# Altium schematic symbol library Capacitor_0603.SchLib: 54 symbols
Pins are listed as number, name and electrical type; pins without a type are passive.

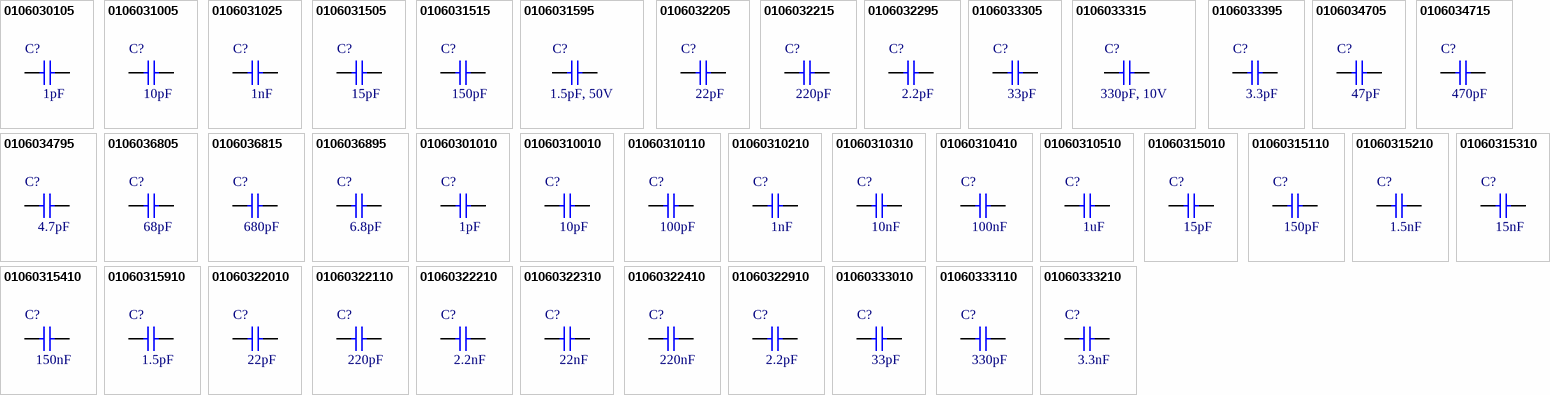
[diagram p0: symbols 0106030105 to 01060333210]

## 0106030105
designator C?, comment 1pF
CAP, size 0603, 1pF; Supply 1 SN: 885012006045; Supply 1 name: Wurth Elektronik; Capacitance Tolerance: +/-5%; ComponentLink1Description: Manufacturer; ComponentLink1URL: http://www.we-online.de; ComponentLink2Description: Datasheet; ComponentLink2URL: https://www.we-online.com/catalog/datasheet/885012006045.pdf; Operating Temperature: -55 to +125degC; Packaging: Tape and Reel; Supply 1 URL: https://www.we-online.com/en/components/products/WCAP-CSGP-50VDC?sq=885012006045#885012006045; Supply 2 SN: *; Supply 2 name: *; Supply 2 URL: *; Dissipation Factor: *; Height: *; Mounting Technology: SMT; Size: 0603; Capacitance: 1pF; Technical Reference: *
footprint CAP_0603
pins: 1, 2

## 0106031005
designator C?, comment 10pF
CAP, size 0603,10pF; Supply 1 SN: 885012006051; Supply 1 name: Wurth Elektronik; Capacitance Tolerance: +/-5%; ComponentLink1Description: Manufacturer; ComponentLink1URL: http://www.we-online.de; ComponentLink2Description: Datasheet; ComponentLink2URL: https://www.we-online.com/catalog/datasheet/885012006051.pdf; Operating Temperature: -55 to +125degC; Packaging: Tape and Reel; Supply 1 URL: https://www.we-online.com/en/components/products/WCAP-CSGP-50VDC?sq=885012006051#885012006051; Supply 2 SN: *; Supply 2 name: *; Supply 2 URL: *; Dissipation Factor: *; Height: *; Mounting Technology: SMT; Size: 0603; Capacitance: 10pF; Technical Reference: *
footprint CAP_0603
pins: 1, 2

## 0106031025
designator C?, comment 1nF
CAP, size 0603, 1nF; Supply 1 SN: 885012006063; Supply 1 name: Wurth Elektronik; Capacitance Tolerance: +/-5%; ComponentLink1Description: Manufacturer; ComponentLink1URL: http://www.we-online.de; ComponentLink2Description: Datasheet; ComponentLink2URL: https://www.we-online.com/components/products/datasheet/885012006063.pdf; Operating Temperature: -55 to +125degC; Packaging: Tape and Reel; Supply 1 URL: https://www.we-online.com/en/components/products/WCAP-CSGP-50VDC?sq=885012007063#885012007063; Supply 2 SN: *; Supply 2 name: *; Supply 2 URL: *; Dissipation Factor: *; Height: *; Mounting Technology: SMT; Size: 0603; Capacitance: 1nF; Technical Reference: *
footprint CAP_0603
pins: 1, 2

## 0106031505
designator C?, comment 15pF
CAP, size 0603, 15pF; Supply 1 SN: 885012006052; Supply 1 name: Wurth Elektronik; Capacitance Tolerance: +/-5%; ComponentLink1Description: Manufacturer; ComponentLink1URL: http://www.we-online.de; ComponentLink2Description: Datasheet; ComponentLink2URL: https://www.we-online.com/catalog/datasheet/885012006052.pdf; Operating Temperature: -55 to +125degC; Packaging: Tape and Reel; Supply 1 URL: https://www.we-online.com/en/components/products/WCAP-CSGP-50VDC?sq=885012007052#885012007052; Supply 2 SN: *; Supply 2 name: *; Supply 2 URL: *; Height: 0.6mm; Mounting Technology: SMT; Size: 0603; Capacitance: 15pF; Technical Reference: *; *: *
footprint CAP_0603
pins: 1, 2

## 0106031515
designator C?, comment 150pF
CAP, size 0603, 150pF; Supply 1 SN: 885012006058; Supply 1 name: Wurth Elektronik; Capacitance Tolerance: +/-5%; ComponentLink1Description: Manufacturer; ComponentLink1URL: http://www.we-online.de; ComponentLink2Description: Datasheet; ComponentLink2URL: https://www.we-online.com/catalog/datasheet/885012006058.pdf; Operating Temperature: -55 to +125degC; Packaging: Tape and Reel; Supply 1 URL: https://www.we-online.com/en/components/products/WCAP-CSGP-50VDC?sq=885012006058#885012006058; Supply 2 SN: *; Supply 2 name: *; Supply 2 URL: *; Dissipation Factor: *; Height: *; Mounting Technology: SMT; Size: 0805; Capacitance: 150pF; Technical Reference: *
footprint CAP_0603
pins: 1, 2

## 0106031595
designator C?, comment 1.5pF, 50V
CAP, size 0603, 1.5pF; Supply 1 SN: 885012006046; Supply 1 name: Wurth Elektronik; Capacitance Tolerance: +/-0.5pF; ComponentLink1Description: Manufacturer; ComponentLink1URL: http://www.we-online.de; ComponentLink2Description: Datasheet; ComponentLink2URL: https://www.we-online.com/catalog/datasheet/885012006046.pdf; Operating Temperature: -55 to +125degC; Packaging: Tape and Reel; Supply 1 URL: https://www.we-online.com/en/components/products/WCAP-CSGP-50VDC?sq=885012006046#885012006046; Supply 2 SN: *; Supply 2 name: *; Supply 2 URL: *; Dissipation Factor: *; Height: *; Mounting Technology: SMT; Size: 0603; Capacitance: 1.5pF; Technical Reference: *
footprint CAP_0603
pins: 1, 2

## 0106032205
designator C?, comment 22pF
CAP, size 0603, 22pF; Supply 1 SN: 885012006053; Supply 1 name: Wurth Elektronik; Capacitance Tolerance: +/-5%; ComponentLink1Description: Manufacturer; ComponentLink1URL: http://www.we-online.de; ComponentLink2Description: Datasheet; ComponentLink2URL: https://www.we-online.com/catalog/datasheet/885012006053.pdf; Operating Temperature: -55 to +125degC; Packaging: Tape and Reel; Supply 1 URL: https://www.we-online.com/en/components/products/WCAP-CSGP-50VDC?sq=885012006053#885012006053; Supply 2 SN: *; Supply 2 name: *; Supply 2 URL: *; *: *; Height: *; Mounting Technology: SMT; Size: 0805; Capacitance: 22pF; Technical Reference: *
footprint CAP_0603
pins: 1, 2

## 0106032215
designator C?, comment 220pF
CAP, size 0603, 220pF; Supply 1 SN: 885012006059; Supply 1 name: Wurth Elektronik; Capacitance Tolerance: +/-5%; ComponentLink1Description: Manufacturer; ComponentLink1URL: http://www.we-online.de; ComponentLink2Description: Datasheet; ComponentLink2URL: https://www.we-online.com/catalog/datasheet/885012006059.pdf; Operating Temperature: -55 to +125degC; Packaging: Tape and Reel; Supply 1 URL: https://www.we-online.com/en/components/products/WCAP-CSGP-50VDC?sq=885012006059#885012006059; Supply 2 SN: *; Supply 2 name: *; Supply 2 URL: *; Dissipation Factor: *; Height: *; Mounting Technology: SMT; Size: 0805; Technical Reference: *; Capacitance: 220pF
footprint CAP_0603
pins: 1, 2

## 0106032295
designator C?, comment 2.2pF
CAP, size 0603, 2.2pF; Supply 1 SN: 885012006047; Supply 1 name: Wurth Elektronik; Capacitance Tolerance: +/-0.5pF; ComponentLink1Description: Manufacturer; ComponentLink1URL: http://www.we-online.de; ComponentLink2Description: Datasheet; ComponentLink2URL: https://www.we-online.com/catalog/datasheet/885012006047.pdf; Operating Temperature: -55 to +125degC; Packaging: Tape and Reel; Supply 1 URL: https://www.we-online.com/en/components/products/WCAP-CSGP-50VDC?sq=885012006047#885012006047; Supply 2 SN: *; Supply 2 name: *; Supply 2 URL: *; Dissipation Factor: *; Height: *; Mounting Technology: SMT; Size: 0805; Capacitance: 2.2pF; Technical Reference: *
footprint CAP_0603
pins: 1, 2

## 0106033305
designator C?, comment 33pF
CAP, size 0603, 33pF; Supply 1 SN: 885012006054; Supply 1 name: Wurth Elektronik; Capacitance Tolerance: +/-5%; ComponentLink1Description: Manufacturer; ComponentLink1URL: http://www.we-online.de; ComponentLink2Description: Datasheet; ComponentLink2URL: https://www.we-online.com/catalog/datasheet/885012006054.pdf; Operating Temperature: -55 to +125degC; Packaging: Tape and Reel; Supply 1 URL: https://www.we-online.com/en/components/products/WCAP-CSGP-50VDC?sq=885012006054#885012006054; Supply 2 SN: *; Supply 2 name: *; Supply 2 URL: *; *: *; Height: *; Mounting Technology: SMT; Size: 0805; Capacitance: 33pF; Technical Reference: *
footprint CAP_0603
pins: 1, 2

## 0106033315
designator C?, comment 330pF, 10V
CAP, size 0603, 330pF; Supply 1 SN: 885012006060; Supply 1 name: Wurth Elektronik; Capacitance Tolerance: +/-5%; ComponentLink1Description: Manufacturer; ComponentLink1URL: http://www.we-online.de; ComponentLink2Description: Datasheet; ComponentLink2URL: https://www.we-online.com/catalog/datasheet/885012006060.pdf; Operating Temperature: -55 to +125degC; Packaging: Tape and Reel; Supply 1 URL: https://www.we-online.com/en/components/products/WCAP-CSGP-50VDC?sq=885012006060#885012006060; Supply 2 SN: *; Supply 2 name: *; Supply 2 URL: *; Dissipation Factor: *; Height: *; Mounting Technology: SMT; Size: 0603; Capacitance: 330pF; Technical Reference: *
footprint CAP_0603
pins: 1, 2

## 0106033395
designator C?, comment 3.3pF
CAP, size 0603, 3.3pF; Supply 1 SN: 885012006048; Supply 1 name: Wurth Elektronik; Capacitance Tolerance: +/-0.5pF; ComponentLink1Description: Manufacturer; ComponentLink1URL: http://www.we-online.de; ComponentLink2Description: Datasheet; ComponentLink2URL: https://www.we-online.com/catalog/datasheet/885012006048.pdf; Operating Temperature: -55 to +125degC; Packaging: Tape and Reel; Supply 1 URL: https://www.we-online.com/en/components/products/WCAP-CSGP-50VDC?sq=885012006048#885012006048; Supply 2 SN: *; Supply 2 name: *; Supply 2 URL: *; Dissipation Factor: *; Height: *; Mounting Technology: SMT; Size: 0805; Capacitance: 3.3pF; Technical Reference: *
footprint CAP_0603
pins: 1, 2

## 0106034705
designator C?, comment 47pF
CAP, size 0603, 47pF; Supply 1 SN: 885012006055; Supply 1 name: Wurth Elektronik; Capacitance Tolerance: +/-5%; ComponentLink1Description: Manufacturer; ComponentLink1URL: http://www.we-online.de; ComponentLink2Description: Datasheet; ComponentLink2URL: https://www.we-online.com/catalog/datasheet/885012006055.pdf; Operating Temperature: -55 to +125degC; Packaging: Tape and Reel; Supply 1 URL: https://www.we-online.com/en/components/products/WCAP-CSGP-50VDC?sq=885012006055#885012006055; Supply 2 SN: *; Supply 2 name: *; Supply 2 URL: *; Dissipation Factor: *; Height: *; Mounting Technology: SMT; Size: 0603; Capacitance: 47pF; Technical Reference: *
footprint CAP_0603
pins: 1, 2

## 0106034715
designator C?, comment 470pF
CAP, size 0603, 470pF; Supply 1 SN: 885012006061; Supply 1 name: Wurth Elektronik; Capacitance Tolerance: +/-5%; ComponentLink1Description: Manufacturer; ComponentLink1URL: http://www.we-online.de; ComponentLink2Description: Datasheet; ComponentLink2URL: https://www.we-online.com/catalog/datasheet/885012006061.pdf; Operating Temperature: -55 to +125degC; Packaging: Tape and Reel; Supply 1 URL: https://www.we-online.com/en/components/products/WCAP-CSGP-50VDC?sq=885012006061#885012006061; Supply 2 SN: *; Supply 2 name: *; Supply 2 URL: *; Dissipation Factor: *; Height: *; Mounting Technology: SMT; Size: 0603; Capacitance: 470pF; Technical Reference: *
footprint CAP_0603
pins: 1, 2

## 0106034795
designator C?, comment 4.7pF
CAP, size 0603, 4.7pF; Supply 1 SN: 885012006049; Supply 1 name: Wurth Elektronik; Capacitance Tolerance: +/-0.5pF; ComponentLink1Description: Manufacturer; ComponentLink1URL: http://www.we-online.de; ComponentLink2Description: Datasheet; ComponentLink2URL: https://www.we-online.com/catalog/datasheet/885012006049.pdf; Operating Temperature: -55 to +125degC; Packaging: Tape and Reel; Supply 1 URL: https://www.we-online.com/en/components/products/WCAP-CSGP-50VDC?sq=885012006049#885012006049; Supply 2 SN: *; Supply 2 name: *; Supply 2 URL: *; Dissipation Factor: *; Height: *; Mounting Technology: SMT; Size: 0603; Capacitance: 4.7pF; Technical Reference: *
footprint CAP_0603
pins: 1, 2

## 0106036805
designator C?, comment 68pF
CAP, size 0603, 68pF; Supply 1 SN: 885012006056; Supply 1 name: Wurth Elektronik; Capacitance Tolerance: +/-5%; ComponentLink1Description: Manufacturer; ComponentLink1URL: http://www.we-online.de; ComponentLink2Description: Datasheet; ComponentLink2URL: https://www.we-online.com/catalog/datasheet/885012006056.pdf; Operating Temperature: -55 to +125degC; Packaging: Tape and Reel; Supply 1 URL: https://www.we-online.com/en/components/products/WCAP-CSGP-50VDC?sq=885012006056#885012006056; Supply 2 SN: *; Supply 2 name: *; Supply 2 URL: *; Dissipation Factor: *; Height: *; Mounting Technology: SMT; Size: 0603; Capacitance: 68pF; Technical Reference: *
footprint CAP_0603
pins: 1, 2

## 0106036815
designator C?, comment 680pF
CAP, size 0805, 680pF; Supply 1 SN: 885012006062; Supply 1 name: Wurth Elektronik; Capacitance Tolerance: +/-5%; ComponentLink1Description: Manufacturer; ComponentLink1URL: http://www.we-online.de; ComponentLink2Description: Datasheet; ComponentLink2URL: https://www.we-online.com/catalog/datasheet/885012006062.pdf; Operating Temperature: -55 to +125degC; Packaging: Tape and Reel; Supply 1 URL: https://www.we-online.com/en/components/products/WCAP-CSGP-50VDC?sq=885012006062#885012006062; Supply 2 SN: *; Supply 2 name: *; Supply 2 URL: *; Dissipation Factor: *; Height: *; Mounting Technology: SMT; Size: 0603; Capacitance: 680pF; Technical Reference: *
footprint CAP_0603
pins: 1, 2

## 0106036895
designator C?, comment 6.8pF
CAP, size 0603, 6.8pF; Supply 1 SN: 885012006050; Supply 1 name: Wurth Elektronik; Capacitance Tolerance: +/-0.5pF; ComponentLink1Description: Manufacturer; ComponentLink1URL: http://www.we-online.de; ComponentLink2Description: Datasheet; ComponentLink2URL: https://www.we-online.com/catalog/datasheet/885012006050.pdf; Operating Temperature: -55 to +125degC; Packaging: Tape and Reel; Supply 1 URL: https://www.we-online.com/en/components/products/WCAP-CSGP-50VDC?sq=885012006050#885012006050; Supply 2 SN: *; Supply 2 name: *; Supply 2 URL: *; Dissipation Factor: *; Height: *; Mounting Technology: SMT; Size: 0603; Capacitance: 6.8pF; Technical Reference: *
footprint CAP_0603
pins: 1, 2

## 01060301010
designator C?, comment 1pF
CAP, size 0603, 1pF; Supply 2 name: Thegioiic; Capacitance Tolerance: +/-10%; ComponentLink1Description: Manufacturer; ComponentLink1URL: *; ComponentLink2Description: Datasheet; ComponentLink2URL: *; Operating Temperature: -55 to +125degC; Packaging: Tape and Reel; Supply 1 SN: *; Supply 1 name: *; Supply 1 URL: *; Supply 2 SN: *; Supply 2 URL: https://www.thegioiic.com/tu-gom-0603-1pf-50v; Dissipation Factor: *; Height: *; Mounting Technology: SMT; Size: 0603; Capacitance: 1pF; Technical Reference: *
footprint CAP_0603
pins: 1, 2

## 01060310010
designator C?, comment 10pF
CAP, size 0603,10pF; Supply 2 name: Thegioiic; Capacitance Tolerance: +/-10%; ComponentLink1Description: Manufacturer; ComponentLink1URL: *; ComponentLink2Description: Datasheet; ComponentLink2URL: *; Operating Temperature: -55 to +125degC; Packaging: Tape and Reel; Supply 1 SN: *; Supply 1 name: *; Supply 1 URL: *; Supply 2 SN: *; Supply 2 URL: https://www.thegioiic.com/tu-gom-0603-10pf-50v; Dissipation Factor: *; Height: *; Mounting Technology: SMT; Size: 0805; Capacitance: 10pF; Technical Reference: *
footprint CAP_0603
pins: 1, 2

## 01060310110
designator C?, comment 100pF
CAP, size 0603,100pF; Supply 1 SN: 885012206077; Supply 1 name: Wurth Elektronik; Supply 2 name: Thegioiic; Capacitance Tolerance: +/-10%; ComponentLink1Description: Manufacturer; ComponentLink1URL: http://www.we-online.de; ComponentLink2Description: Datasheet; ComponentLink2URL: https://www.we-online.com/catalog/datasheet/885012206077.pdf; Operating Temperature: -55 to +125degC; Packaging: Tape and Reel; Supply 1 URL: https://www.we-online.com/en/components/products/WCAP-CSGP-50VDC?sq=885012206077#885012206077; Supply 2 SN: *; Supply 2 URL: https://www.thegioiic.com/tu-gom-0603-100pf-50v; Dissipation Factor: *; Height: *; Mounting Technology: SMT; Size: 0603; Capacitance: 100pF; Technical Reference: *
footprint CAP_0603
pins: 1, 2

## 01060310210
designator C?, comment 1nF
CAP, size 0603, 1nF; Supply 1 SN: 885012206083; Supply 1 name: Wurth Elektronik; Supply 2 name: Thegioiic; Capacitance Tolerance: +/-10%; ComponentLink1Description: Manufacturer; ComponentLink1URL: http://www.we-online.de; ComponentLink2Description: Datasheet; ComponentLink2URL: https://www.we-online.com/catalog/datasheet/885012206083.pdf; Operating Temperature: -55 to +125degC; Packaging: Tape and Reel; Supply 1 URL: https://www.we-online.com/en/components/products/WCAP-CSGP-50VDC?sq=885012206083#885012206083; Supply 2 SN: *; Supply 2 URL: https://www.thegioiic.com/tu-gom-0603-1nf-50v; Dissipation Factor: *; Height: *; Mounting Technology: SMT; Size: 0603; Capacitance: 1nF; Technical Reference: *
footprint CAP_0603
pins: 1, 2

## 01060310310
designator C?, comment 10nF
CAP, size 0603, 10nF; Supply 1 SN: 885012206089; Supply 1 name: Wurth Elektronik; Supply 2 name: Thegioiic; Capacitance Tolerance: +/-10%; ComponentLink1Description: Manufacturer; ComponentLink1URL: http://www.we-online.de; ComponentLink2Description: Datasheet; ComponentLink2URL: https://www.we-online.com/catalog/datasheet/885012206089.pdf; Operating Temperature: -55 to +125degC; Packaging: Tape and Reel; Supply 1 URL: https://www.we-online.com/en/components/products/WCAP-CSGP-50VDC?sq=885012206089#885012206089; Supply 2 SN: *; Supply 2 URL: https://www.thegioiic.com/tu-gom-0603-10nf-50v; Dissipation Factor: *; Height: *; Mounting Technology: SMT; Size: 0603; Capacitance: 10nF; Technical Reference: *
footprint CAP_0603
pins: 1, 2

## 01060310410
designator C?, comment 100nF
CAP, size 0603, 100nF; Supply 1 SN: 885012206095; Supply 1 name: Wurth Elektronik; Supply 2 name: Thegioiic; Capacitance Tolerance: +/-10%; ComponentLink1Description: Manufacturer; ComponentLink1URL: http://www.we-online.de; ComponentLink2Description: Datasheet; ComponentLink2URL: https://www.we-online.com/catalog/datasheet/885012206095.pdf; Operating Temperature: -55 to +125degC; Packaging: Tape and Reel; Supply 1 URL: https://www.we-online.com/en/components/products/WCAP-CSGP-50VDC?sq=885012206095R#885012206095R; Supply 2 SN: *; Supply 2 URL: https://www.thegioiic.com/tu-gom-0603-100nf-0-1uf-50v; Dissipation Factor: *; Height: *; Mounting Technology: SMT; Size: 0603; Capacitance: 100nF; Technical Reference: *
footprint CAP_0603
pins: 1, 2

## 01060310510
designator C?, comment 1uF
CAP, size 0603, 1uF; Supply 1 SN: 885012206126; Supply 1 name: Wurth Elektronik; Supply 2 name: Thegioiic; Capacitance Tolerance: +/-10%; ComponentLink1Description: Manufacturer; ComponentLink1URL: http://www.we-online.de; ComponentLink2Description: Datasheet; ComponentLink2URL: https://www.we-online.com/components/products/datasheet/885012206126.pdf; Operating Temperature: -55 to +125degC; Packaging: Tape and Reel; Supply 1 URL: https://www.we-online.com/en/components/products/WCAP-CSGP-50VDC?sq=885012206126#885012206126; Supply 2 SN: *; Supply 2 URL: https://www.thegioiic.com/tu-gom-0603-1uf-50v; Dissipation Factor: *; Height: *; Mounting Technology: SMT; Size: 0603; Capacitance: 1uF; Technical Reference: *
footprint CAP_0603
pins: 1, 2

## 01060315010
designator C?, comment 15pF
CAP, size 0603, 15pF; Supply 2 name: Thegioiic; Capacitance Tolerance: +/-10%; ComponentLink1Description: Manufacturer; ComponentLink1URL: *; ComponentLink2Description: Datasheet; ComponentLink2URL: *; Operating Temperature: -55 to +125degC; Packaging: Tape and Reel; Supply 1 SN: *; Supply 1 name: *; Supply 1 URL: *; Supply 2 SN: *; Supply 2 URL: https://www.thegioiic.com/tu-gom-0603-15pf-50v; Dissipation Factor: *; Height: *; Mounting Technology: SMT; Size: 0603; Capacitance: 15pF; Technical Reference: *
footprint CAP_0603
pins: 1, 2

## 01060315110
designator C?, comment 150pF
CAP, size 0603, 150pF; Supply 1 SN: 885012206078; Supply 1 name: Wurth Elektronik; Supply 2 name: Thegioiic; Capacitance Tolerance: +/-10%; ComponentLink1Description: Manufacturer; ComponentLink1URL: http://www.we-online.de; ComponentLink2Description: Datasheet; ComponentLink2URL: https://www.we-online.com/catalog/datasheet/885012206078.pdf; Operating Temperature: -55 to +125degC; Packaging: Tape and Reel; Supply 1 URL: https://www.we-online.com/en/components/products/WCAP-CSGP-50VDC?sq=885012206078#885012206078; Supply 2 SN: *; Supply 2 URL: https://www.thegioiic.com/tu-gom-0603-150pf-50v; Dissipation Factor: *; Height: *; Mounting Technology: SMT; Size: 0603; Capacitance: 150pF; Technical Reference: *
footprint CAP_0603
pins: 1, 2

## 01060315210
designator C?, comment 1.5nF
CAP, size 0603, 1.5nF; Supply 1 SN: 885012206084; Supply 1 name: Wurth Elektronik; Supply 2 name: Thegioiic; Capacitance Tolerance: +/-10%; ComponentLink1Description: Manufacturer; ComponentLink1URL: http://www.we-online.de; ComponentLink2Description: Datasheet; ComponentLink2URL: https://www.we-online.com/catalog/datasheet/885012206084.pdf; Operating Temperature: -55 to +125degC; Packaging: Tape and Reel; Supply 1 URL: https://www.we-online.com/en/components/products/WCAP-CSGP-50VDC?sq=885012206084#885012206084; Supply 2 SN: *; Supply 2 URL: https://www.thegioiic.com/tu-gom-0603-1-5nf-50v; Dissipation Factor: *; Height: *; Mounting Technology: SMT; Size: 0603; Capacitance: 1.5nF; Technical Reference: *
footprint CAP_0603
pins: 1, 2

## 01060315310
designator C?, comment 15nF
CAP, size 0603, 15nF; Supply 1 SN: 885012206090; Supply 1 name: Wurth Elektronik; Supply 2 name: Thegioiic; Capacitance Tolerance: +/-10%; ComponentLink1Description: Manufacturer; ComponentLink1URL: http://www.we-online.de; ComponentLink2Description: Datasheet; ComponentLink2URL: https://www.we-online.com/catalog/datasheet/885012206090.pdf; Operating Temperature: -55 to +125degC; Packaging: Tape and Reel; Supply 1 URL: https://www.we-online.com/en/components/products/WCAP-CSGP-50VDC?sq=885012206090#885012206090; Supply 2 SN: *; Supply 2 URL: https://www.thegioiic.com/tu-gom-0603-15nf-50v; Dissipation Factor: *; Height: *; Mounting Technology: SMT; Size: 0603; Capacitance: 15nF; Technical Reference: *
footprint CAP_0603
pins: 1, 2

## 01060315410
designator C?, comment 150nF
CAP, size 0603, 150nF; Supply 2 name: Thegioiic; Capacitance Tolerance: +/-10%; ComponentLink1Description: Manufacturer; ComponentLink1URL: *; ComponentLink2Description: Datasheet; ComponentLink2URL: *; Operating Temperature: -55 to +125degC; Packaging: Tape and Reel; Supply 1 SN: *; Supply 1 name: *; Supply 1 URL: *; Supply 2 SN: *; Supply 2 URL: https://www.thegioiic.com/tu-gom-0603-150nf-50v; Dissipation Factor: *; Height: *; Mounting Technology: SMT; Size: 0603; Capacitance: 150nF; Technical Reference: *
footprint CAP_0603
pins: 1, 2

## 01060315910
designator C?, comment 1.5pF
CAP, size 0603, 1.5pF; Supply 2 name: Thegioiic; Capacitance Tolerance: +/-10%; ComponentLink1Description: Manufacturer; ComponentLink1URL: Thegioiic; ComponentLink2Description: Datasheet; ComponentLink2URL: *; Operating Temperature: -55 to +125degC; Packaging: Tape and Reel; Supply 1 SN: *; Supply 1 name: *; Supply 1 URL: *; Supply 2 SN: *; Supply 2 URL: https://www.thegioiic.com/tu-gom-0603-1-5pf-50v; Dissipation Factor: *; Height: *; Mounting Technology: SMT; Size: 0603; Capacitance: 1.5pF; Technical Reference: *
footprint CAP_0603
pins: 1, 2

## 01060322010
designator C?, comment 22pF
CAP, size 0603, 22pF; Supply 2 name: Thegioiic; Capacitance Tolerance: +/-10%; ComponentLink1Description: Manufacturer; ComponentLink1URL: Thegioiic; ComponentLink2Description: Datasheet; ComponentLink2URL: *; Operating Temperature: -55 to +125degC; Packaging: Tape and Reel; Supply 1 SN: *; Supply 1 name: *; Supply 1 URL: *; Supply 2 SN: *; Supply 2 URL: https://www.thegioiic.com/tu-gom-0603-22pf-50v; *: *; Height: *; Mounting Technology: SMT; Size: 0603; Capacitance: 22pF; Technical Reference: *
footprint CAP_0603
pins: 1, 2

## 01060322110
designator C?, comment 220pF
CAP, size 0603, 220pF; Supply 1 SN: 885012206079; Supply 1 name: Wurth Elektronik; Supply 2 name: Thegioiic; Capacitance Tolerance: +/-10%; ComponentLink1Description: Manufacturer; ComponentLink1URL: http://www.we-online.de; ComponentLink2Description: Datasheet; ComponentLink2URL: https://www.we-online.com/catalog/datasheet/885012206079.pdf; Operating Temperature: -55 to +125degC; Packaging: Tape and Reel; Supply 1 URL: https://www.we-online.com/en/components/products/WCAP-CSGP-50VDC?sq=885012206079#885012206079; Supply 2 SN: *; Supply 2 URL: https://www.thegioiic.com/tu-gom-0603-220pf-50v; Dissipation Factor: *; Height: *; Mounting Technology: SMT; Size: 0603; Technical Reference: *; Capacitance: 220pF
footprint CAP_0603
pins: 1, 2

## 01060322210
designator C?, comment 2.2nF
CAP, size 0603, 2.2nF; Supply 1 SN: 885012206085; Supply 1 name: Wurth Elektronik; Supply 2 name: Thegioiic; Capacitance Tolerance: +/-10%; ComponentLink1Description: Manufacturer; ComponentLink1URL: http://www.we-online.de; ComponentLink2Description: Datasheet; ComponentLink2URL: https://www.we-online.com/catalog/datasheet/885012206085.pdf; Operating Temperature: -55 to +125degC; Packaging: Tape and Reel; Supply 1 URL: https://www.we-online.com/en/components/products/WCAP-CSGP-50VDC?sq=885012206085#885012206085; Supply 2 SN: *; Supply 2 URL: https://www.thegioiic.com/tu-gom-0603-2-2nf-50v; Dissipation Factor: *; Height: *; Mounting Technology: SMT; Size: 0603; Capacitance: 2.2nF; Technical Reference: *
footprint CAP_0603
pins: 1, 2

## 01060322310
designator C?, comment 22nF
CAP, size 0603, 22nF; Supply 1 SN: 885012206091; Supply 1 name: Wurth Elektronik; Supply 2 name: Thegioiic; Capacitance Tolerance: +/-10%; ComponentLink1Description: Manufacturer; ComponentLink1URL: http://www.we-online.de; ComponentLink2Description: Datasheet; ComponentLink2URL: https://www.we-online.com/catalog/datasheet/885012206091.pdf; Operating Temperature: -55 to +125degC; Packaging: Tape and Reel; Supply 1 URL: https://www.we-online.com/en/components/products/WCAP-CSGP-50VDC?sq=885012206091#885012206091; Supply 2 SN: *; Supply 2 URL: https://www.thegioiic.com/tu-gom-0603-22nf-50v; Dissipation Factor: *; Height: *; Mounting Technology: SMT; Size: 0603; Capacitance: 22nF; Technical Reference: *
footprint CAP_0603
pins: 1, 2

## 01060322410
designator C?, comment 220nF
CAP, size 0603, 220nF; Supply 1 SN: 885012206125; Supply 1 name: Wurth Elektronik; Supply 2 name: Thegioiic; Capacitance Tolerance: +/-10%; ComponentLink1Description: Manufacturer; ComponentLink1URL: http://www.we-online.de; ComponentLink2Description: Datasheet; ComponentLink2URL: https://www.we-online.com/catalog/datasheet/885012206125.pdf; Operating Temperature: -55 to +125degC; Packaging: Tape and Reel; Supply 1 URL: https://www.we-online.com/en/components/products/WCAP-CSGP-50VDC?sq=885012206125#885012206125; Supply 2 SN: *; Supply 2 URL: https://www.thegioiic.com/tu-gom-0603-220nf-50v; Dissipation Factor: *; Height: *; Mounting Technology: SMT; Size: 0603; Capacitance: 220nF; Technical Reference: *
footprint CAP_0603
pins: 1, 2

## 01060322910
designator C?, comment 2.2pF
CAP, size 0603, 2.2pF; Supply 2 name: Thegioiic; Capacitance Tolerance: +/-10%; ComponentLink1Description: Manufacturer; ComponentLink1URL: Thegioiic; ComponentLink2Description: Datasheet; ComponentLink2URL: *; Operating Temperature: -55 to +125degC; Packaging: Tape and Reel; Supply 1 SN: *; Supply 1 name: *; Supply 1 URL: *; Supply 2 SN: *; Supply 2 URL: https://www.thegioiic.com/tu-gom-0805-2-2pf-50v; Dissipation Factor: *; Height: *; Mounting Technology: SMT; Size: 0805; Capacitance: 2.2pF; Technical Reference: *
footprint CAP_0603
pins: 1, 2

## 01060333010
designator C?, comment 33pF
CAP, size 0603, 33pF; Supply 2 name: Thegioiic; Capacitance Tolerance: +/-10%; ComponentLink1Description: Manufacturer; ComponentLink1URL: Thegioiic; ComponentLink2Description: Datasheet; ComponentLink2URL: *; Operating Temperature: -55 to +125degC; Packaging: Tape and Reel; Supply 1 SN: *; Supply 1 name: *; Supply 1 URL: *; Supply 2 SN: *; Supply 2 URL: https://www.thegioiic.com/tu-gom-0603-33pf-50v; *: *; Height: *; Mounting Technology: SMT; Size: 0603; Capacitance: 33pF; Technical Reference: *
footprint CAP_0603
pins: 1, 2

## 01060333110
designator C?, comment 330pF
CAP, size 0603, 330pF; Supply 1 SN: 885012206121; Supply 1 name: Wurth Elektronik; Supply 2 name: Thegioiic; Capacitance Tolerance: +/-10%; ComponentLink1Description: Manufacturer; ComponentLink1URL: http://www.we-online.de; ComponentLink2Description: Datasheet; ComponentLink2URL: https://www.we-online.com/catalog/datasheet/885012206121.pdf; Operating Temperature: -55 to +125degC; Packaging: Tape and Reel; Supply 1 URL: https://www.we-online.com/en/components/products/WCAP-CSGP-50VDC?sq=885012206121#885012206121; Supply 2 SN: *; Supply 2 URL: https://www.thegioiic.com/tu-gom-0603-330pf-50v; Dissipation Factor: *; Height: *; Mounting Technology: SMT; Size: 0603; Capacitance: 330pF; Technical Reference: *
footprint CAP_0603
pins: 1, 2

## 01060333210
designator C?, comment 3.3nF
CAP, size 0603, 3.3nF; Supply 1 SN: 885012206086; Supply 1 name: Wurth Elektronik; Supply 2 name: Thegioiic; Capacitance Tolerance: +/-10%; ComponentLink1Description: Manufacturer; ComponentLink1URL: http://www.we-online.de; ComponentLink2Description: Datasheet; ComponentLink2URL: https://www.we-online.com/catalog/datasheet/885012206086.pdf; Operating Temperature: -55 to +125degC; Packaging: Tape and Reel; Supply 1 URL: https://www.we-online.com/en/components/products/WCAP-CSGP-50VDC?sq=885012206086#885012206086; Supply 2 SN: *; Supply 2 URL: https://www.thegioiic.com/tu-gom-0603-3-3nf-50v; Dissipation Factor: *; Height: *; Mounting Technology: SMT; Size: 0603; Capacitance: 3.3nF; Technical Reference: *
footprint CAP_0603
pins: 1, 2

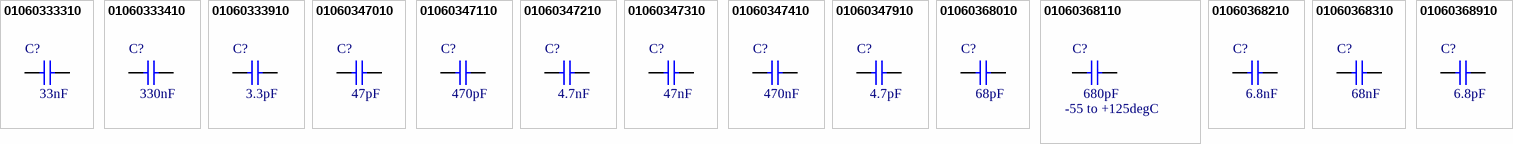
[diagram p1: symbols 01060333310 to 01060368910]

## 01060333310
designator C?, comment 33nF
CAP, size 0603, 33nF; Supply 1 SN: 885012206092; Supply 1 name: Wurth Elektronik; Supply 2 name: Thegioiic; Capacitance Tolerance: +/-10%; ComponentLink1Description: Manufacturer; ComponentLink1URL: http://www.we-online.de; ComponentLink2Description: Datasheet; ComponentLink2URL: https://www.we-online.com/catalog/datasheet/885012206092.pdf; Operating Temperature: -55 to +125degC; Packaging: Tape and Reel; Supply 1 URL: https://www.we-online.com/en/components/products/WCAP-CSGP-50VDC?sq=885012206092#885012206092; Supply 2 SN: *; Supply 2 URL: https://www.thegioiic.com/tu-gom-0603-33nf-50v; Dissipation Factor: *; Height: *; Mounting Technology: SMT; Size: 0603; Capacitance: 33nF; Technical Reference: *
footprint CAP_0603
pins: 1, 2

## 01060333410
designator C?, comment 330nF
CAP, size 0603, 330nF; Supply 1 SN: 885012206121; Supply 1 name: Wurth Elektronik; Supply 2 name: Thegioiic; Capacitance Tolerance: +/-10%; ComponentLink1Description: Manufacturer; ComponentLink1URL: http://www.we-online.de; ComponentLink2Description: Datasheet; ComponentLink2URL: https://www.we-online.com/catalog/datasheet/885012206121.pdf; Operating Temperature: -55 to +125degC; Packaging: Tape and Reel; Supply 1 URL: https://www.we-online.com/en/components/products/WCAP-CSGP-50VDC?sq=885012206121#885012206121; Supply 2 SN: *; Supply 2 URL: https://www.thegioiic.com/tu-gom-0603-330nf-50v; Dissipation Factor: *; Height: *; Mounting Technology: SMT; Size: 0805; Capacitance: 330nF; Technical Reference: *
footprint CAP_0603
pins: 1, 2

## 01060333910
designator C?, comment 3.3pF
CAP, size 0603, 3.3pF; Supply 2 name: Thegioiic; Capacitance Tolerance: +/-10%; ComponentLink1Description: Manufacturer; ComponentLink1URL: Thegioiic; ComponentLink2Description: Datasheet; ComponentLink2URL: *; Operating Temperature: -55 to +125degC; Packaging: Tape and Reel; Supply 1 SN: *; Supply 1 name: *; Supply 1 URL: *; Supply 2 SN: *; Supply 2 URL: https://www.thegioiic.com/tu-gom-0603-3-3pf-50v; Dissipation Factor: *; Height: *; Mounting Technology: SMT; Size: 0603; Capacitance: 3.3pF; Technical Reference: *
footprint CAP_0603
pins: 1, 2

## 01060347010
designator C?, comment 47pF
CAP, size 0603, 47pF; Supply 2 name: Thegioiic; Capacitance Tolerance: +/-10%; ComponentLink1Description: Manufacturer; ComponentLink1URL: Thegioiic; ComponentLink2Description: Datasheet; ComponentLink2URL: *; Operating Temperature: -55 to +125degC; Packaging: Tape and Reel; Supply 1 SN: *; Supply 1 name: *; Supply 1 URL: *; Supply 2 SN: *; Supply 2 URL: https://www.thegioiic.com/tu-gom-0603-47pf-50v; Dissipation Factor: *; Height: *; Mounting Technology: SMT; Size: 0603; Capacitance: 47pF; Technical Reference: *
footprint CAP_0603
pins: 1, 2

## 01060347110
designator C?, comment 470pF
CAP, size 0603, 470pF; Supply 1 SN: 885012206081; Supply 1 name: Wurth Elektronik; Supply 2 name: Thegioiic; Capacitance Tolerance: +/-10%; ComponentLink1Description: Manufacturer; ComponentLink1URL: http://www.we-online.de; ComponentLink2Description: Datasheet; ComponentLink2URL: https://www.we-online.com/catalog/datasheet/885012206081.pdf; Operating Temperature: -55 to +125degC; Packaging: Tape and Reel; Supply 1 URL: https://www.we-online.com/en/components/products/WCAP-CSGP-50VDC?sq=885012206081#885012206081; Supply 2 SN: *; Supply 2 URL: https://www.thegioiic.com/tu-gom-0603-470pf-50v; Dissipation Factor: *; Height: *; Mounting Technology: SMT; Size: 0603; Capacitance: 470pF; Technical Reference: *
footprint CAP_0603
pins: 1, 2

## 01060347210
designator C?, comment 4.7nF
CAP, size 0603, 4.7nF; Supply 1 SN: 885012206087; Supply 1 name: Wurth Elektronik; Supply 2 name: Thegioiic; Capacitance Tolerance: +/-10%; ComponentLink1Description: Manufacturer; ComponentLink1URL: http://www.we-online.de; ComponentLink2Description: Datasheet; ComponentLink2URL: https://www.we-online.com/catalog/datasheet/885012206087.pdf; Operating Temperature: -55 to +125degC; Packaging: Tape and Reel; Supply 1 URL: https://www.we-online.com/en/components/products/WCAP-CSGP-50VDC?sq=885012206087#885012206087; Supply 2 SN: *; Supply 2 URL: https://www.thegioiic.com/tu-gom-0603-4-7nf-50v; Dissipation Factor: *; Height: *; Mounting Technology: SMT; Size: 0603; Capacitance: 4.7nF; Technical Reference: *
footprint CAP_0603
pins: 1, 2

## 01060347310
designator C?, comment 47nF
CAP, size 0603, 47nF; Supply 1 SN: 885012206093; Supply 1 name: Wurth Elektronik; Supply 2 name: Thegioiic; Capacitance Tolerance: +/-10%; ComponentLink1Description: Manufacturer; ComponentLink1URL: http://www.we-online.de; ComponentLink2Description: Datasheet; ComponentLink2URL: https://www.we-online.com/catalog/datasheet/885012206093.pdf; Operating Temperature: -55 to +125degC; Packaging: Tape and Reel; Supply 1 URL: https://www.we-online.com/en/components/products/WCAP-CSGP-50VDC?sq=885012206093#885012206093; Supply 2 SN: *; Supply 2 URL: https://www.thegioiic.com/tu-gom-0603-47nf-50v; Dissipation Factor: *; Height: *; Mounting Technology: SMT; Size: 0603; Capacitance: 47nF; Technical Reference: *
footprint CAP_0603
pins: 1, 2

## 01060347410
designator C?, comment 470nF
CAP, size 0603, 470nF; Supply 2 name: Thegioiic; Capacitance Tolerance: +/-10%; ComponentLink1Description: Manufacturer; ComponentLink1URL: *; ComponentLink2Description: Datasheet; ComponentLink2URL: *; Operating Temperature: -55 to +125degC; Packaging: Tape and Reel; Supply 1 SN: *; Supply 1 name: *; Supply 1 URL: *; Supply 2 SN: *; Supply 2 URL: https://www.thegioiic.com/tu-gom-0603-470nf-50v; Dissipation Factor: *; Height: *; Mounting Technology: SMT; Size: 0603; Capacitance: 470nF; Technical Reference: *
footprint CAP_0603
pins: 1, 2

## 01060347910
designator C?, comment 4.7pF
CAP, size 0603, 4.7pF; Supply 2 name: Thegioiic; Capacitance Tolerance: +/-10%; ComponentLink1Description: Manufacturer; ComponentLink1URL: Thegioiic; ComponentLink2Description: Datasheet; ComponentLink2URL: *; Operating Temperature: -55 to +125degC; Packaging: Tape and Reel; Supply 1 SN: *; Supply 1 name: *; Supply 1 URL: *; Supply 2 SN: *; Supply 2 URL: https://www.thegioiic.com/tu-gom-0603-4-7pf-50v; Dissipation Factor: *; Height: *; Mounting Technology: SMT; Size: 0603; Capacitance: 4.7pF; Technical Reference: *
footprint CAP_0603
pins: 1, 2

## 01060368010
designator C?, comment 68pF
CAP, size 0603, 68pF; Supply 2 name: Thegioiic; Capacitance Tolerance: +/-10%; ComponentLink1Description: Manufacturer; ComponentLink1URL: Thegioiic; ComponentLink2Description: Datasheet; ComponentLink2URL: *; Operating Temperature: -55 to +125degC; Packaging: Tape and Reel; Supply 1 SN: *; Supply 1 name: *; Supply 1 URL: *; Supply 2 SN: *; Supply 2 URL: https://www.thegioiic.com/tu-gom-0603-68nf-50v; Dissipation Factor: *; Height: *; Mounting Technology: SMT; Size: 0603; Capacitance: 68pF; Technical Reference: *
footprint CAP_0603
pins: 1, 2

## 01060368110
designator C?, comment 680pF  Operating Temperature: -55 to +125degC
CAP, size 0603, 680pF; Supply 1 SN: 885012206082; Supply 1 name: Wurth Elektronik; Supply 2 name: Thegioiic; Capacitance Tolerance: +/-10%; ComponentLink1Description: Manufacturer; ComponentLink1URL: http://www.we-online.de; ComponentLink2Description: Datasheet; ComponentLink2URL: https://www.we-online.com/catalog/datasheet/885012206082.pdf; Packaging: Tape and Reel; Supply 1 URL: https://www.we-online.com/en/components/products/WCAP-CSGP-50VDC?sq=885012206082#885012206082; Supply 2 SN: *; Supply 2 URL: https://www.thegioiic.com/tu-gom-0603-680pf-50v; Dissipation Factor: *; Height: *; Mounting Technology: SMT; Size: 0603; Technical Reference: *; Capacitance: 680pF
footprint CAP_0603
pins: 1, 2

## 01060368210
designator C?, comment 6.8nF
CAP, size 0603, 6.8nF; Supply 1 SN: 885012206088; Supply 1 name: Wurth Elektronik; Supply 2 name: Thegioiic; Capacitance Tolerance: +/-10%; ComponentLink1Description: Manufacturer; ComponentLink1URL: http://www.we-online.de; ComponentLink2Description: Datasheet; ComponentLink2URL: https://www.we-online.com/catalog/datasheet/885012206088.pdf; Operating Temperature: -55 to +125degC; Packaging: Tape and Reel; Supply 1 URL: https://www.we-online.com/en/components/products/WCAP-CSGP-50VDC?sq=885012206088#885012206088; Supply 2 SN: *; Supply 2 URL: https://www.thegioiic.com/tu-gom-0603-6-8nf-50v; Dissipation Factor: *; Height: *; Mounting Technology: SMT; Size: 0603; Capacitance: 6.8nF; Technical Reference: *
footprint CAP_0603
pins: 1, 2

## 01060368310
designator C?, comment 68nF
CAP, size 0603, 68nF; Supply 1 SN: 885012206094; Supply 1 name: Wurth Elektronik; Supply 2 name: Thegioiic; Capacitance Tolerance: +/-10%; ComponentLink1Description: Manufacturer; ComponentLink1URL: http://www.we-online.de; ComponentLink2Description: Datasheet; ComponentLink2URL: https://www.we-online.com/catalog/datasheet/885012206094.pdf; Operating Temperature: -55 to +125degC; Packaging: Tape and Reel; Supply 1 URL: https://www.we-online.com/en/components/products/WCAP-CSGP-50VDC?sq=885012206094#885012206094; Supply 2 SN: *; Supply 2 URL: https://www.thegioiic.com/tu-gom-0603-68nf-50v; Dissipation Factor: *; Height: *; Mounting Technology: SMT; Size: 0603; Capacitance: 68nF; Technical Reference: *
footprint CAP_0603
pins: 1, 2

## 01060368910
designator C?, comment 6.8pF
CAP, size 0603, 6.8pF; Supply 2 name: Thegioiic; Capacitance Tolerance: +/-0.5pF; ComponentLink1Description: Manufacturer; ComponentLink1URL: Thegioiic; ComponentLink2Description: Datasheet; ComponentLink2URL: *; Operating Temperature: -55 to +125degC; Packaging: Tape and Reel; Supply 1 SN: *; Supply 1 name: *; Supply 1 URL: *; Supply 2 SN: *; Supply 2 URL: https://www.thegioiic.com/tu-gom-0603-6-8pf-50v; Dissipation Factor: *; Height: *; Mounting Technology: SMT; Size: 0603; Capacitance: 6.8pF; Technical Reference: *
footprint CAP_0603
pins: 1, 2